# EAGLE library part STM32F756Z (library Rebel)
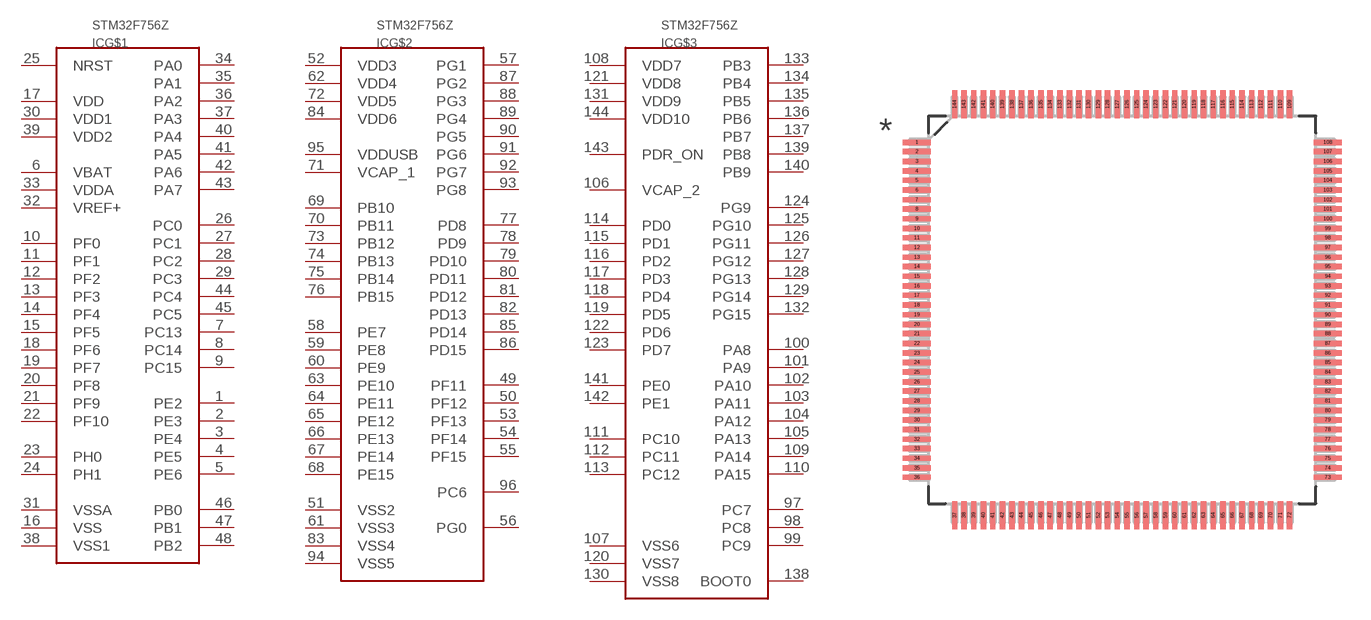
[diagram p28: symbol with the pads of QFP50P2200X2200X160-144N; footprint QFP50P2200X2200X160-144N]

Designator prefix IC; gates G$1=STM32F756Z_A G$2=STM32F756Z_B G$3=STM32F756Z_C

## STM32F756ZLQFP144  [QFP50P2200X2200X160-144N]
1  G$1:PE2
2  G$1:PE3
3  G$1:PE4
4  G$1:PE5
5  G$1:PE6
6  G$1:VBAT
7  G$1:PC13
8  G$1:PC14
9  G$1:PC15
10  G$1:PF0
11  G$1:PF1
12  G$1:PF2
13  G$1:PF3
14  G$1:PF4
15  G$1:PF5
16  G$1:VSS
17  G$1:VDD
18  G$1:PF6
19  G$1:PF7
20  G$1:PF8
21  G$1:PF9
22  G$1:PF10
23  G$1:PH0
24  G$1:PH1
25  G$1:NRST
26  G$1:PC0
27  G$1:PC1
28  G$1:PC2
29  G$1:PC3
30  G$1:VDD1
31  G$1:VSSA
32  G$1:VREF+
33  G$1:VDDA
34  G$1:PA0
35  G$1:PA1
36  G$1:PA2
37  G$1:PA3
38  G$1:VSS1
39  G$1:VDD2
40  G$1:PA4
41  G$1:PA5
42  G$1:PA6
43  G$1:PA7
44  G$1:PC4
45  G$1:PC5
46  G$1:PB0
47  G$1:PB1
48  G$1:PB2
49  G$2:PF11
50  G$2:PF12
51  G$2:VSS2
52  G$2:VDD3
53  G$2:PF13
54  G$2:PF14
55  G$2:PF15
56  G$2:PG0
57  G$2:PG1
58  G$2:PE7
59  G$2:PE8
60  G$2:PE9
61  G$2:VSS3
62  G$2:VDD4
63  G$2:PE10
64  G$2:PE11
65  G$2:PE12
66  G$2:PE13
67  G$2:PE14
68  G$2:PE15
69  G$2:PB10
70  G$2:PB11
71  G$2:VCAP_1
72  G$2:VDD5
73  G$2:PB12
74  G$2:PB13
75  G$2:PB14
76  G$2:PB15
77  G$2:PD8
78  G$2:PD9
79  G$2:PD10
80  G$2:PD11
81  G$2:PD12
82  G$2:PD13
83  G$2:VSS4
84  G$2:VDD6
85  G$2:PD14
86  G$2:PD15
87  G$2:PG2
88  G$2:PG3
89  G$2:PG4
90  G$2:PG5
91  G$2:PG6
92  G$2:PG7
93  G$2:PG8
94  G$2:VSS5
95  G$2:VDDUSB
96  G$2:PC6
97  G$3:PC7
98  G$3:PC8
99  G$3:PC9
100  G$3:PA8
101  G$3:PA9
102  G$3:PA10
103  G$3:PA11
104  G$3:PA12
105  G$3:PA13
106  G$3:VCAP_2
107  G$3:VSS6
108  G$3:VDD7
109  G$3:PA14
110  G$3:PA15
111  G$3:PC10
112  G$3:PC11
113  G$3:PC12
114  G$3:PD0
115  G$3:PD1
116  G$3:PD2
117  G$3:PD3
118  G$3:PD4
119  G$3:PD5
120  G$3:VSS7
121  G$3:VDD8
122  G$3:PD6
123  G$3:PD7
124  G$3:PG9
125  G$3:PG10
126  G$3:PG11
127  G$3:PG12
128  G$3:PG13
129  G$3:PG14
130  G$3:VSS8
131  G$3:VDD9
132  G$3:PG15
133  G$3:PB3
134  G$3:PB4
135  G$3:PB5
136  G$3:PB6
137  G$3:PB7
138  G$3:BOOT0
139  G$3:PB8
140  G$3:PB9
141  G$3:PE0
142  G$3:PE1
143  G$3:PDR_ON
144  G$3:VDD10

## Footprint QFP50P2200X2200X160-144N (pad centres in mm)
smd 1.473 x 0.279: 1 -10.719,8.738; 2 -10.719,8.255; 3 -10.719,7.747; 4 -10.719,7.239; 5 -10.719,6.756; 6 -10.719,6.248; 7 -10.719,5.74; 8 -10.719,5.258; 9 -10.719,4.75; 10 -10.719,4.242; 11 -10.719,3.759; 12 -10.719,3.251; 13 -10.719,2.743; 14 -10.719,2.261; 15 -10.719,1.753; 16 -10.719,1.245; 17 -10.719,0.762; 18 -10.719,0.254; 19 -10.719,-0.254; 20 -10.719,-0.762; 21 -10.719,-1.245; 22 -10.719,-1.753; 23 -10.719,-2.261; 24 -10.719,-2.743; 25 -10.719,-3.251; 26 -10.719,-3.759; 27 -10.719,-4.242; 28 -10.719,-4.75; 29 -10.719,-5.258; 30 -10.719,-5.74; 31 -10.719,-6.248; 32 -10.719,-6.756; 33 -10.719,-7.239; 34 -10.719,-7.747; 35 -10.719,-8.255; 36 -10.719,-8.738; 73 10.719,-8.738; 74 10.719,-8.255; 75 10.719,-7.747; 76 10.719,-7.239; 77 10.719,-6.756; 78 10.719,-6.248; 79 10.719,-5.74; 80 10.719,-5.258; 81 10.719,-4.75; 82 10.719,-4.242; 83 10.719,-3.759; 84 10.719,-3.251; 85 10.719,-2.743; 86 10.719,-2.261; 87 10.719,-1.753; 88 10.719,-1.245; 89 10.719,-0.762; 90 10.719,-0.254; 91 10.719,0.254; 92 10.719,0.762; 93 10.719,1.245; 94 10.719,1.753; 95 10.719,2.261; 96 10.719,2.743; 97 10.719,3.251; 98 10.719,3.759; 99 10.719,4.242; 100 10.719,4.75; 101 10.719,5.258; 102 10.719,5.74; 103 10.719,6.248; 104 10.719,6.756; 105 10.719,7.239; 106 10.719,7.747; 107 10.719,8.255; 108 10.719,8.738
smd 0.279 x 1.473: 37 -8.738,-10.719; 38 -8.255,-10.719; 39 -7.747,-10.719; 40 -7.239,-10.719; 41 -6.756,-10.719; 42 -6.248,-10.719; 43 -5.74,-10.719; 44 -5.258,-10.719; 45 -4.75,-10.719; 46 -4.242,-10.719; 47 -3.759,-10.719; 48 -3.251,-10.719; 49 -2.743,-10.719; 50 -2.261,-10.719; 51 -1.753,-10.719; 52 -1.245,-10.719; 53 -0.762,-10.719; 54 -0.254,-10.719; 55 0.254,-10.719; 56 0.762,-10.719; 57 1.245,-10.719; 58 1.753,-10.719; 59 2.261,-10.719; 60 2.743,-10.719; 61 3.251,-10.719; 62 3.759,-10.719; 63 4.242,-10.719; 64 4.75,-10.719; 65 5.258,-10.719; 66 5.74,-10.719; 67 6.248,-10.719; 68 6.756,-10.719; 69 7.239,-10.719; 70 7.747,-10.719; 71 8.255,-10.719; 72 8.738,-10.719; 109 8.738,10.719; 110 8.255,10.719; 111 7.747,10.719; 112 7.239,10.719; 113 6.756,10.719; 114 6.248,10.719; 115 5.74,10.719; 116 5.258,10.719; 117 4.75,10.719; 118 4.242,10.719; 119 3.759,10.719; 120 3.251,10.719; 121 2.743,10.719; 122 2.261,10.719; 123 1.753,10.719; 124 1.245,10.719; 125 0.762,10.719; 126 0.254,10.719; 127 -0.254,10.719; 128 -0.762,10.719; 129 -1.245,10.719; 130 -1.753,10.719; 131 -2.261,10.719; 132 -2.743,10.719; 133 -3.251,10.719; 134 -3.759,10.719; 135 -4.242,10.719; 136 -4.75,10.719; 137 -5.258,10.719; 138 -5.74,10.719; 139 -6.248,10.719; 140 -6.756,10.719; 141 -7.239,10.719; 142 -7.747,10.719; 143 -8.255,10.719; 144 -8.738,10.719